# Altium footprint library 51ExpBoard.PcbLib: 27 footprints (part 2 of 2)
Each footprint in its own frame and in the unit in brackets; x right, y up, seen from the top. Pads: shape width x height; smd on the part's side, far side on the other; paste and mask are expansions set on the pad; w line width, h text height; cw(c..) or ccw(c..) is an arc to the next point about the centre after c.
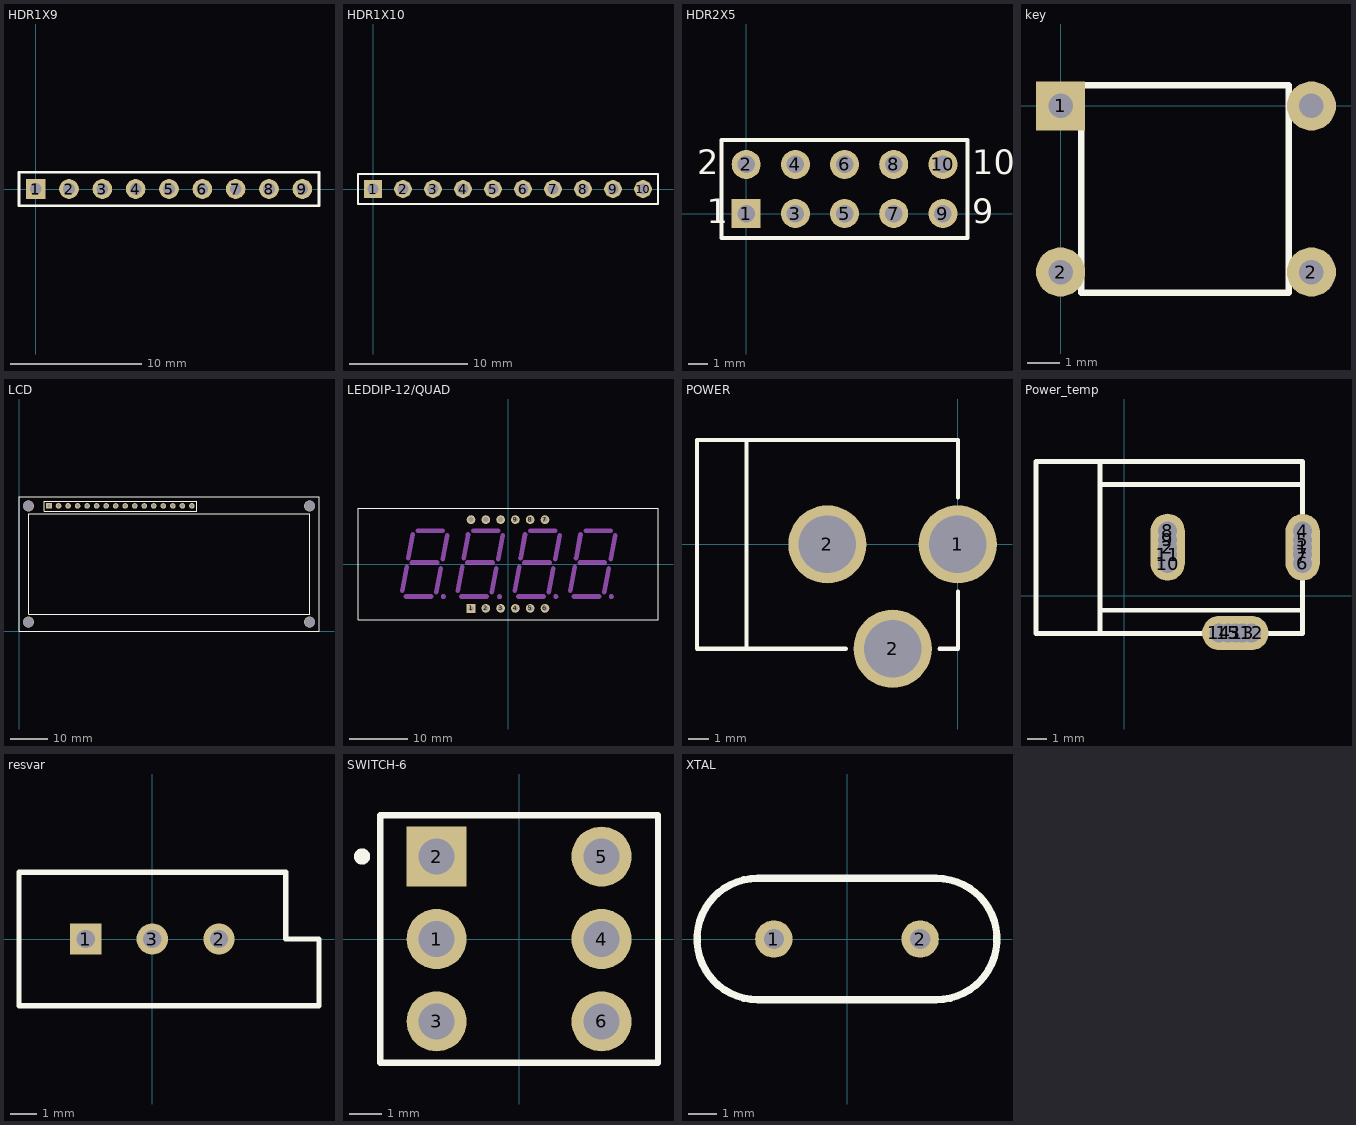
[diagram p1: the footprints below, top view; thin cyan lines are the x and y axes]

## HDR1X9 [mm] "Connector; Header; 9 Position"
pads (9):
  rect 1.5x1.5 hole 0.9: 1(0,0)
  round 1.5 hole 0.9: 2(2.54,0) 3(5.08,0) 4(7.62,0) 5(10.16,0) 6(12.7,0) 7(15.24,0) 8(17.78,0) 9(20.32,0)
Top Overlay:
  lines w0.2: -1.27,-1.27 21.59,-1.27 21.59,1.27 -1.27,1.27 -1.27,-1.27

## HDR1X10 [mm] "Connector; Header; 10 Position"
pads (10):
  rect 1.5x1.5 hole 0.9: 1(0,0)
  round 1.5 hole 0.9: 2(2.54,0) 3(5.08,0) 4(7.62,0) 5(10.16,0) 6(12.7,0) 7(15.24,0) 8(17.78,0) 9(20.32,0) 10(22.86,0)
Top Overlay:
  lines w0.2: -1.27,-1.27 -1.27,1.27 0.635,1.27 24.13,1.27 24.13,-1.27 -1.27,-1.27

## HDR2X5 [mm] "Connector; Header; 5x2 Position"
pads (10):
  rect 1.5x1.5 hole 0.9: 1(0,0)
  round 1.5 hole 0.9: 2(0,2.54) 3(2.54,0) 4(2.54,2.54) 5(5.08,0) 6(5.08,2.54) 7(7.62,0) 8(7.62,2.54) 9(10.16,0) 10(10.16,2.54)
Top Overlay:
  lines w0.2: -1.27,-1.27 11.43,-1.27 11.43,3.81 -1.27,3.81 -1.27,-1.27
  text "10" at 11.684,2.032 h1.27
  text "9" at 11.684,-0.508 h1.27
  text "1" at -2.032,-0.508 h1.27
  text "2" at -2.54,2.032 h1.27

## key [mm]
pads (4):
  rect 1.5x1.5 hole 0.75: 1(0,0)
  round 1.5 hole 0.75: 2(0,-5.08) 2(7.68,-5.08) ""(7.68,0)
Top Overlay:
  lines w0.2: 0.635,-5.715 6.984,-5.715 6.985,0.635 0.635,0.635 0.635,-5.715

## LCD [mm]
pads (16):
  rect 1.5x1.5 hole 0.9: 1(8.001,33.5)
  round 1.5 hole 0.9: 2(10.541,33.5) 3(13.081,33.5) 4(15.621,33.5) 5(18.161,33.5) 6(20.701,33.5) 7(23.241,33.5) 8(25.781,33.5) 9(28.321,33.5) 10(30.861,33.5) 11(33.401,33.5) 12(35.941,33.5) 13(38.481,33.5) 14(41.021,33.5) 15(43.561,33.5) 16(46.101,33.5)
via 77.5,2.5 diameter 3 hole 2.77
via 77.5,33.5 diameter 3 hole 2.77
via 2.5,2.5 diameter 3 hole 2.77
via 2.5,33.5 diameter 3 hole 2.77
Top Overlay:
  lines w0.2: 6.731,32.131 6.731,34.671 8.636,34.671 47.371,34.671 47.371,32.131 6.731,32.131
  lines w0.254: 0,0 80,0 80,36 0,36 0,0 ; 2.54,4.572 77.6,4.572 77.6,31.369 2.54,31.369 2.54,4.572

## LEDDIP-12/QUAD [mm] "LED, 7-Segment Display, 14.22 mm, Four Digit, 88:88; 12 Leads; Row Space 15.24 mm; Pitch 2.54 mm"
height 8.26
pads (12):
  rect 1.5x1.5 hole 0.9: 1(-6.35,-7.62)
  round 1.5 hole 0.9: 2(-3.81,-7.62) 3(-1.27,-7.62) 4(1.27,-7.62) 5(3.81,-7.62) 6(6.35,-7.62) 7(6.35,7.62) 8(3.81,7.62) 9(1.27,7.62) 10(-1.27,7.62) 11(-3.81,7.62) 12(-6.35,7.62)
Top Overlay:
  lines w0.2: -25.75,-9.573 -25.75,9.573 25.75,9.573 25.75,-9.573 -25.75,-9.573
Mechanical 1:
  circle w0.5: c-1.45,-5.588 r0.18
  circle w0.5: c8.202,-5.588 r0.18
  circle w0.5: c17.727,-5.588 r0.18
  circle w0.5: c-11.102,-5.588 r0.18
  lines w0.8: -18.166,-4.617 -17.399,-0.508 ; -17.526,-5.588 -13.208,-5.588 ; -17.145,1.016 -16.378,5.125 ; -16.51,0.254 -12.192,0.254 ; -15.494,5.715 -11.176,5.715 ; -12.324,-4.871 -11.557,-0.762 ; -11.181,0.844 -10.414,4.953 ; -8.641,-4.617 -7.874,-0.508 ; -8.001,-5.588 -3.683,-5.588 ; -7.62,1.016 -6.853,5.125 ; -6.985,0.254 -2.667,0.254 ; -5.969,5.715 -1.651,5.715 ; -2.799,-4.871 -2.032,-0.762 ; -1.656,0.844 -0.889,4.953 ; 1.138,-4.617 1.905,-0.508 ; 1.778,-5.588 6.096,-5.588 ; 2.159,1.016 2.926,5.125 ; 2.794,0.254 7.112,0.254 ; 3.81,5.715 8.128,5.715 ; 6.98,-4.871 7.747,-0.762 ; 8.123,0.844 8.89,4.953 ; 10.663,-4.617 11.43,-0.508 ; 11.303,-5.588 15.621,-5.588 ; 11.684,1.016 12.451,5.125 ; 12.319,0.254 16.637,0.254 ; 13.335,5.715 17.653,5.715 ; 16.505,-4.871 17.272,-0.762 ; 17.648,0.844 18.415,4.953

## POWER [mil]
pads (3):
  round 150 hole 110: 1(0,0) 2(-250,0) 2(-125,-200)
Top Overlay:
  lines w8: -405,-200 -405,200 ; -215,-200 -500,-200 -500,200 0,200 0,90 ; -35,-200 0,-200 0,-90

## Power_temp [mm] "DIP; 4 Leads; Row Spacing 7.62 mm; Pitch 2.54 mm"
height 5.6
pads (15):
  oval 1.8x3.5 hole 1: 1(9.373,2.54) 2(2.286,2.54)
  oval 3.5x1.8 hole 1: 3(5.842,-1.956)
  round 1.8 hole 1: 4(9.373,3.391) 5(9.373,2.921) 6(9.373,1.702) 7(9.373,2.159) 8(2.286,3.404) 9(2.286,2.934) 10(2.286,1.689) 11(2.286,2.159) 12(6.693,-1.956) 13(6.223,-1.956) 14(4.991,-1.956) 15(5.448,-1.956)
Top Overlay:
  lines w0.254: -1.27,-1.905 -1.27,2.54 -1.27,7.036 ; -1.27,-0.762 -1.016,-0.762 9.373,-0.762 ; -1.27,5.842 9.373,5.842 ; -4.623,-1.978 -4.623,7.036 9.373,7.036 9.373,-1.981 -4.623,-1.978

## resvar [mm] "Potentiometer; 3 Leads"
pads (3):
  rect 1.2x1.2 hole 0.7: 1(-2.54,0)
  round 1.2 hole 0.7: 2(2.54,0) 3(0,0)
Top Overlay:
  lines w0.2: -5.08,-2.54 6.35,-2.54 6.35,0 5.08,0 5.08,2.54 -5.08,2.54 -5.08,-2.54

## SWITCH-6 [mm] "Double-Pole, Double-Throw Switch; 6 Leads"
pads (6):
  round 1.85 hole 1.1: 1(-2.54,0) 3(-2.54,-2.54) 4(2.54,0) 5(2.54,2.54) 6(2.54,-2.54)
  rect 1.85x1.85 hole 1.1: 2(-2.54,2.54)
Top Overlay:
  circle w0.25: c-4.836,2.541 r0.125
  lines w0.2: -4.28,-3.81 -4.28,3.81 4.28,3.81 4.28,-3.81 -4.28,-3.81

## XTAL [mm] "Crystal, Thru-Hole; 2 Leads; Body 3.1 x 8.2 mm (Dia.xH)"
height 8.2
pads (2):
  round 1.3 hole 0.7: 1(-2.54,0) 2(2.54,0)
Top Overlay:
  lines w0.254: -3.099,-2.108 cw(c-3.099,0.001) -3.099,2.109 3.099,2.108 cw(c3.099,0) 3.099,-2.108 -3.099,-2.108